# EAGLE library part SSW-114-02-S-Q (library con-samtec)
THROUGH-HOLE .025" SQ POST SOCKET Source: Samtec SSW.pdf
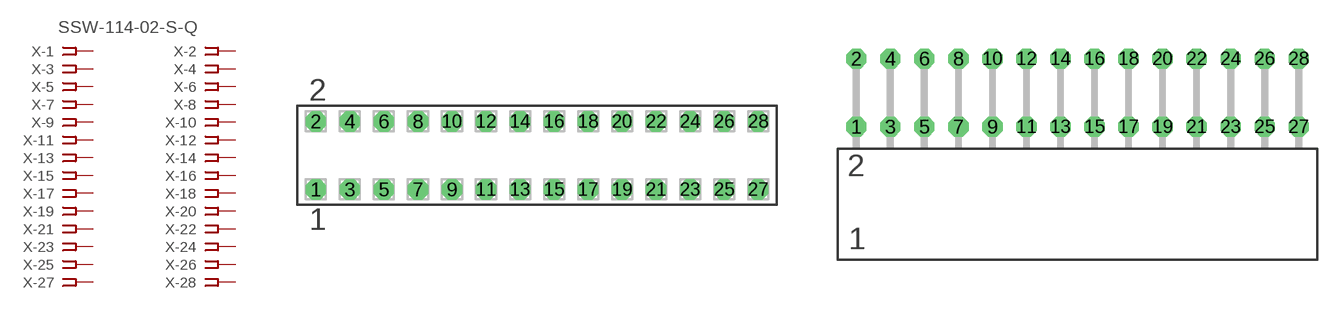
[diagram p134: symbol with the pads of SSW-114-02-S-Q; footprints SSW-114-02-S-Q, SSW-114-02-S-Q-RA]

Designator prefix X; gates -1=FPINV -2=FPIN -3=FPIN -4=FPIN -5=FPIN -6=FPIN -7=FPIN -8=FPIN -9=FPIN -10=FPIN -11=FPIN -12=FPIN -13=FPIN -14=FPIN -15=FPIN -16=FPIN -17=FPIN -18=FPIN -19=FPIN -20=FPIN -21=FPIN -22=FPIN -23=FPIN -24=FPIN -25=FPIN -26=FPIN -27=FPIN -28=FPIN

## SSW-114-02-S-Q (OC_FARNELL: unknown; OC_NEWARK: unknown)  [SSW-114-02-S-Q]
1  -1:1  pas
2  -2:1  pas
3  -3:1  pas
4  -4:1  pas
5  -5:1  pas
6  -6:1  pas
7  -7:1  pas
8  -8:1  pas
9  -9:1  pas
10  -10:1  pas
11  -11:1  pas
12  -12:1  pas
13  -13:1  pas
14  -14:1  pas
15  -15:1  pas
16  -16:1  pas
17  -17:1  pas
18  -18:1  pas
19  -19:1  pas
20  -20:1  pas
21  -21:1  pas
22  -22:1  pas
23  -23:1  pas
24  -24:1  pas
25  -25:1  pas
26  -26:1  pas
27  -27:1  pas
28  -28:1  pas

## SSW-114-02-S-QRA (OC_FARNELL: unknown; OC_NEWARK: unknown)  [SSW-114-02-S-Q-RA]
Pads as for SSW-114-02-S-Q

## Footprint SSW-114-02-S-Q (pad centres in mm)
THROUGH-HOLE .025" SQ POST SOCKET Source: Samtec SSW.pdf
drill 1 pad 1.5 octagon: 1 -16.51,-2.54; 2 -16.51,2.54; 3 -13.97,-2.54; 4 -13.97,2.54; 5 -11.43,-2.54; 6 -11.43,2.54; 7 -8.89,-2.54; 8 -8.89,2.54; 9 -6.35,-2.54; 10 -6.35,2.54; 11 -3.81,-2.54; 12 -3.81,2.54; 13 -1.27,-2.54; 14 -1.27,2.54; 15 1.27,-2.54; 16 1.27,2.54; 17 3.81,-2.54; 18 3.81,2.54; 19 6.35,-2.54; 20 6.35,2.54; 21 8.89,-2.54; 22 8.89,2.54; 23 11.43,-2.54; 24 11.43,2.54; 25 13.97,-2.54; 26 13.97,2.54; 27 16.51,-2.54; 28 16.51,2.54

## Footprint SSW-114-02-S-Q-RA (pad centres in mm)
THROUGH-HOLE .025" SQ POST SOCKET Source: Samtec SSW.pdf
drill 1 pad 1.5 octagon: 1 -16.51,1.524; 2 -16.51,6.604; 3 -13.97,1.524; 4 -13.97,6.604; 5 -11.43,1.524; 6 -11.43,6.604; 7 -8.89,1.524; 8 -8.89,6.604; 9 -6.35,1.524; 10 -6.35,6.604; 11 -3.81,1.524; 12 -3.81,6.604; 13 -1.27,1.524; 14 -1.27,6.604; 15 1.27,1.524; 16 1.27,6.604; 17 3.81,1.524; 18 3.81,6.604; 19 6.35,1.524; 20 6.35,6.604; 21 8.89,1.524; 22 8.89,6.604; 23 11.43,1.524; 24 11.43,6.604; 25 13.97,1.524; 26 13.97,6.604; 27 16.51,1.524; 28 16.51,6.604